# EAGLE library part COLUMN10 (library expboard)
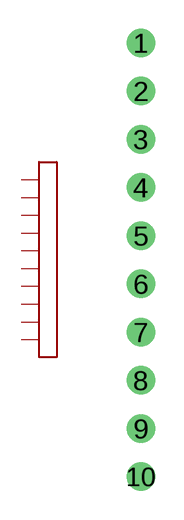
[diagram p2: symbol with the pads of COLUMN10; footprint COLUMN10]

Designator prefix -

## COLUMN10  [COLUMN10]
1  1
2  2
3  3
4  4
5  5
6  6
7  7
8  8
9  9
10  10

## Footprint COLUMN10 (pad centres in mm)
drill 1 round: 1 0,11.43; 2 0,8.89; 3 0,6.35; 4 0,3.81; 5 0,1.27; 6 0,-1.27; 7 0,-3.81; 8 0,-6.35; 9 0,-8.89; 10 0,-11.43